# EAGLE library part 418117170903 (library 428427520910_Eagle_WS-ROTU_rev19b)
2.54 mm compact THT with flat actuator WS-DITV, 3 Pole <http://katalog.we-online.de/media/images/v2/Family_WS-DITV_4181171709xx.jpg> Details see: http://katalog.we-online.de/en/em/DITV_2_54_COMPACT_THT_WITH_FLAT_ACTUATOR 2015 (C) Wurth Elektronik
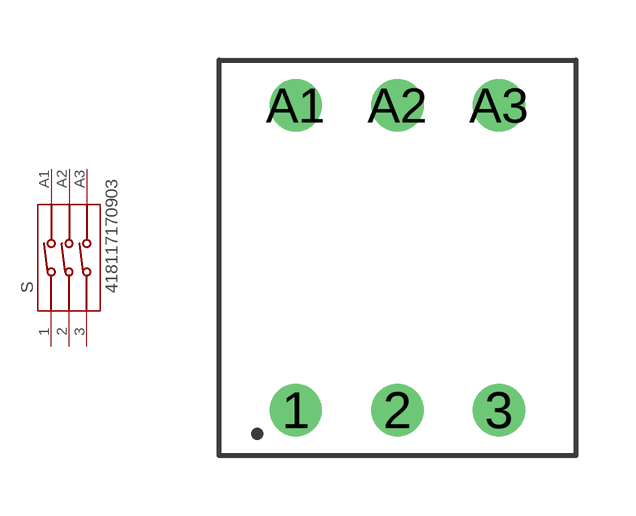
[diagram p42: symbol with the pads of 418117170903; footprint 418117170903]

Designator prefix S

## 418117170903  [418117170903]
1  1  pas
2  2  pas
3  3  pas
A1  6  pas
A2  5  pas
A3  4  pas

## Footprint 418117170903 (pad centres in mm)
WS-BS 2.54 mm compact THT Dip Switch with flat actuator, 3 Pole
drill 0.8: 1 -2.54,-3.81; 2 0,-3.81; 3 2.54,-3.81; A1 -2.54,3.81; A2 0,3.81; A3 2.54,3.81